# Altium schematic symbol library Nordic.SchLib: 9 symbols
Pins are listed as number, name and electrical type; pins without a type are passive.

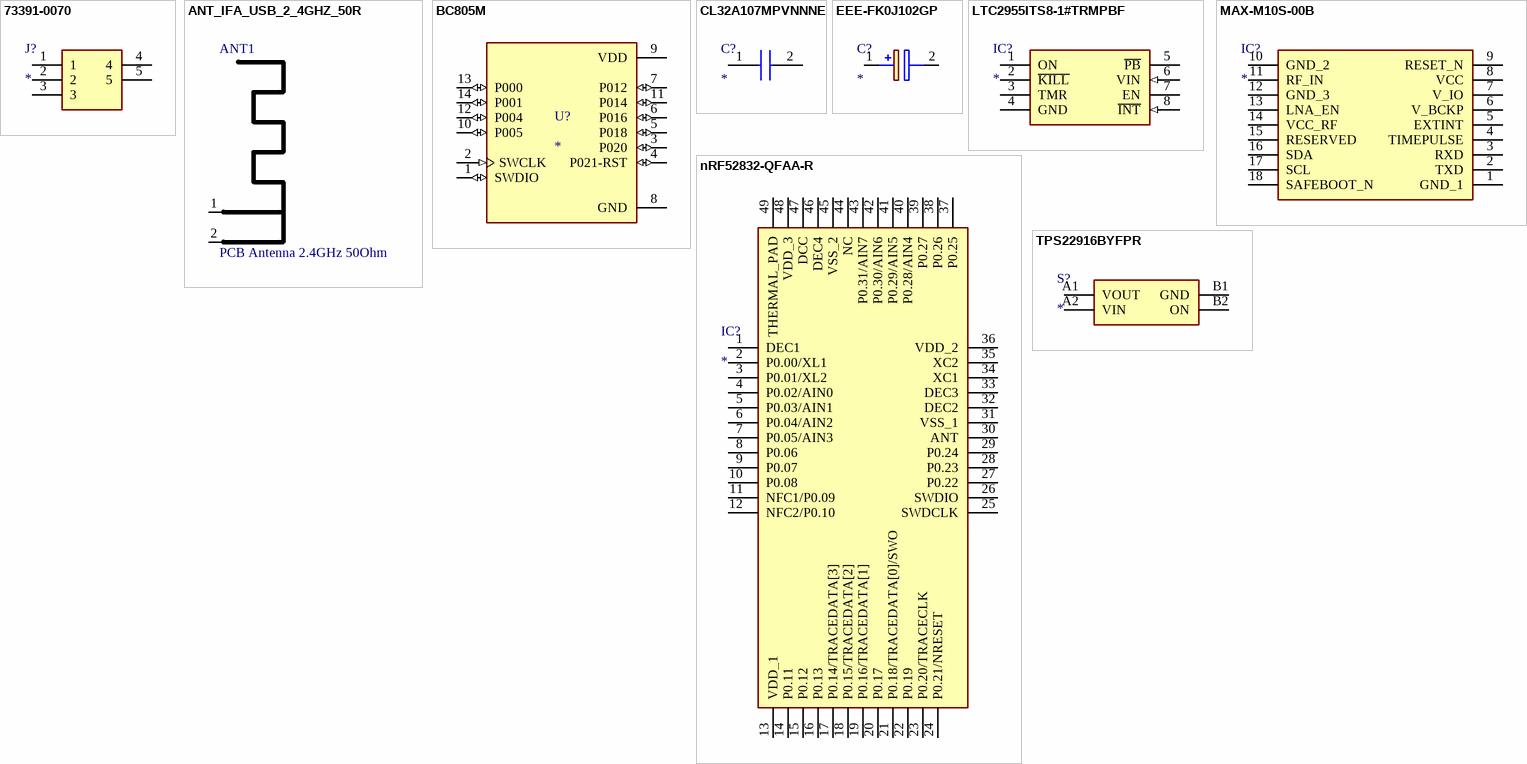
[diagram p0: symbols 73391-0070 to TPS22916BYFPR]

## 73391-0070
designator J?
Connector; Manufacturer_Name: Molex; Manufacturer_Part_Number: 73391-0070; Description: RF Connectors / Coaxial Connectors VERT JACK PCB; Datasheet Link: https://datasheet.datasheetarchive.com/originals/distributors/Datasheets_SAMA/cd6bf19b0e4973497e5cb3fc39017d1b.pdf; Height: 10mm; Mouser Part Number: 538-73391-0070; Mouser Price/Stock: https://www.mouser.co.uk/ProductDetail/Molex/73391-0070?qs=Vtbn2VVmZzEJo591qvlOmw%3D%3D
footprint 733910070
pins: 1, 2, 3, 4, 5

## ANT_IFA_USB_2_4GHZ_50R
designator ANT1, comment PCB Antenna 2.4GHz 50Ohm  (no BOM)
Inverted F 2.4GHz ISM PCB Antenna 50 Ohm; ComponentLink1Description: Datasheet; ComponentLink1URL: https://www.ti.com/lit/an/swra117d/swra117d.pdf
footprint ANT_IFA_USB_2_4GHZ_50R
pins: 1 RF, 2 GND

## BC805M
designator U?
Bluetooth Bluetooth v5.2 Transceiver Module 2.4GHz PCB Trace Surface Mount; MF: Fanstel Corp.; MP: BC805M; Package: SMD-14 Fanstel Corp.; Price: None; Check_prices: https://www.snapeda.com/parts/BC805M/Fanstel+Corp./view-part/?ref=eda; Value: *; SnapEDA_Link: https://www.snapeda.com/parts/BC805M/Fanstel+Corp./view-part/?ref=snap; Availability: In Stock; Purchase-URL: https://pricing.snapeda.com/search/part/BC805M/?ref=eda
footprint XCVR_BC805M
pins: 1 SWDIO (io), 2 SWCLK (in), 3 P020 (io), 4 P021-RST (io), 5 P018 (io), 6 P016 (io), 7 P012 (io), 8 GND (power), 9 VDD (power), 10 P005 (io), 11 P014 (io), 12 P004 (io), 13 P000 (io), 14 P001 (io)

## CL32A107MPVNNNE
designator C?
Capacitor; Manufacturer_Name: SAMSUNG; Manufacturer_Part_Number: CL32A107MPVNNNE; Description: Samsung Electro-Mechanics 1210 (3225M) 100uF Multilayer Ceramic Capacitor MLCC 10V dc +/-20% SMD CL32A107MPVNNNE; Datasheet Link: http://uk.rs-online.com/web/p/products/7661179; Height: 2.8mm; Mouser Part Number: 187-CL32A107MPVNNNE; Mouser Price/Stock: https://www.mouser.co.uk/ProductDetail/Samsung-Electro-Mechanics/CL32A107MPVNNNE?qs=X6jEic%2FHinBwGsPYz57S5w%3D%3D; Arrow Part Number: CL32A107MPVNNNE; Arrow Price/Stock: https://www.arrow.com/en/products/cl32a107mpvnnne/samsung-electro-mechanics?region=nac
footprint CAPC3225X280N
pins: 1, 2

## EEE-FK0J102GP
designator C?
Capacitor Polarised; Manufacturer_Name: Panasonic; Manufacturer_Part_Number: EEE-FK0J102GP; Description: Panasonic 1000F 6.3V dc Aluminium Electrolytic Capacitor; Datasheet Link: http://industrial.panasonic.com/cdbs/www-data/pdf/RDE0000/ABA0000C1181.pdf; Height: 10.8mm; Mouser Part Number: 667-EEE-FK0J102GP; Mouser Price/Stock: https://www.mouser.co.uk/ProductDetail/Panasonic/EEE-FK0J102GP?qs=GoZnPdyRfjYmYFppQKxgHw%3D%3D; Arrow Part Number: EEE-FK0J102GP; Arrow Price/Stock: https://www.arrow.com/en/products/eee-fk0j102gp/panasonic?region=nac
footprint EEHZT1E331UP
pins: 1 +, 2 -

## LTC2955ITS8-1#TRMPBF
designator IC?
Integrated Circuit; Manufacturer_Name: Analog Devices; Description: LTC2955ITS8-1#TRMPBF; Datasheet Link: https://datasheet.datasheetarchive.com/originals/distributors/Datasheets-SFU1/DSASFU10008450.pdf; Height: 1mm; Manufacturer_Part_Number: LTC2955ITS8-1#TRMPBF; Mouser Part Number: 584-C2955ITS8-1TMPF; Mouser Price/Stock: https://www.mouser.co.uk/ProductDetail/Analog-Devices/LTC2955ITS8-1TRMPBF?qs=hVkxg5c3xu8PYYnw8mp%252BwA%3D%3D; Arrow Part Number: LTC2955ITS8-1#TRMPBF; Arrow Price/Stock: https://www.arrow.com/en/products/ltc2955its8-1trmpbf/analog-devices?utm_currency=USD&region=europe
footprint SOT65P280X100-8N
pins: 1 ON, 2 ~{KILL}, 3 TMR, 4 GND (power), 5 ~{PB}, 6 VIN (in), 7 EN, 8 ~{INT} (in)

## MAX-M10S-00B
designator IC?
Integrated Circuit; Manufacturer_Name: u-blox; Manufacturer_Part_Number: MAX-M10S-00B; Description: GPS Modules u-blox M10 GNSS LCC module; Datasheet Link: https://content.u-blox.com/sites/default/files/MAX-M10S_IntegrationManual_UBX-20053088.pdf; Height: 2.7mm; Mouser Part Number: 377-MAX-M10S-00B; Mouser Price/Stock: https://www.mouser.co.uk/ProductDetail/u-blox/MAX-M10S-00B?qs=A6eO%252BMLsxmT0PfQYPb7LLQ%3D%3D; Arrow Part Number: MAX-M10S-00B; Arrow Price/Stock: https://www.arrow.com/en/products/max-m10s-00b/u-blox.html?utm_currency=USD&region=nac
footprint MAXM10S00B
pins: 1 GND_1, 2 TXD, 3 RXD, 4 TIMEPULSE, 5 EXTINT, 6 V_BCKP, 7 V_IO, 8 VCC, 9 RESET_N, 10 GND_2, 11 RF_IN, 12 GND_3, 13 LNA_EN, 14 VCC_RF, 15 RESERVED, 16 SDA, 17 SCL, 18 SAFEBOOT_N

## nRF52832-QFAA-R
designator IC?
Integrated Circuit; Manufacturer_Name: Nordic Semiconductor; Manufacturer_Part_Number: nRF52832-QFAA-R; Datasheet Link: http://infocenter.nordicsemi.com/pdf/nRF52832_PS_v1.3.pdf; Height: 0.9mm; Mouser Part Number: 949-NRF52832-QFAA-R; Mouser Price/Stock: https://www.mouser.co.uk/ProductDetail/Nordic-Semiconductor/nRF52832-QFAA-R?qs=X3Oj%252BjuKOOLm0FWmA%252BRsrg%3D%3D; Arrow Part Number: NRF52832-QFAA-R; Arrow Price/Stock: https://www.arrow.com/en/products/nrf52832-qfaa-r/nordic-semiconductor?utm_currency=USD&region=nac
footprint QFN40P600X600X90-49N-D
pins: 1 DEC1, 2 P0.00/XL1, 3 P0.01/XL2, 4 P0.02/AIN0, 5 P0.03/AIN1, 6 P0.04/AIN2, 7 P0.05/AIN3, 8 P0.06, 9 P0.07, 10 P0.08, 11 NFC1/P0.09, 12 NFC2/P0.10, 13 VDD_1, 14 P0.11, 15 P0.12, 16 P0.13, 17 P0.14/TRACEDATA[3], 18 P0.15/TRACEDATA[2], 19 P0.16/TRACEDATA[1], 20 P0.17, 21 P0.18/TRACEDATA[0]/SWO, 22 P0.19, 23 P0.20/TRACECLK, 24 P0.21/NRESET, 25 SWDCLK, 26 SWDIO, 27 P0.22, 28 P0.23, 29 P0.24, 30 ANT, 31 VSS_1, 32 DEC2, 33 DEC3, 34 XC1, 35 XC2, 36 VDD_2, 37 P0.25, 38 P0.26, 39 P0.27, 40 P0.28/AIN4, 41 P0.29/AIN5, 42 P0.30/AIN6, 43 P0.31/AIN7, 44 NC, 45 VSS_2, 46 DEC4, 47 DCC, 48 VDD_3, 49 THERMAL_PAD

## TPS22916BYFPR
designator S?
Switch; Manufacturer_Name: Texas Instruments; Manufacturer_Part_Number: TPS22916BYFPR; Description: TPS22916 5.5-V; Datasheet Link: http://www.ti.com/lit/gpn/tps22916; Height: 0.5mm; Mouser Part Number: 595-TPS22916BYFPR; Mouser Price/Stock: https://www.mouser.co.uk/ProductDetail/Texas-Instruments/TPS22916BYFPR?qs=EU6FO9ffTwcHQneHYjMKrg%3D%3D; Arrow Part Number: TPS22916BYFPR; Arrow Price/Stock: https://www.arrow.com/en/products/tps22916byfpr/texas-instruments?region=europe
footprint BGA4C40P2X2_78X78X50
pins: A1 VOUT, A2 VIN, B1 GND, B2 ON